# Altium footprint library RFIDComponentLibrary.PcbLib: 21 footprints (part 2 of 2)
Each footprint in its own frame and in the unit in brackets; x right, y up, seen from the top. Pads: shape width x height; smd on the part's side, far side on the other; paste and mask are expansions set on the pad; w line width, h text height; cw(c..) or ccw(c..) is an arc to the next point about the centre after c.
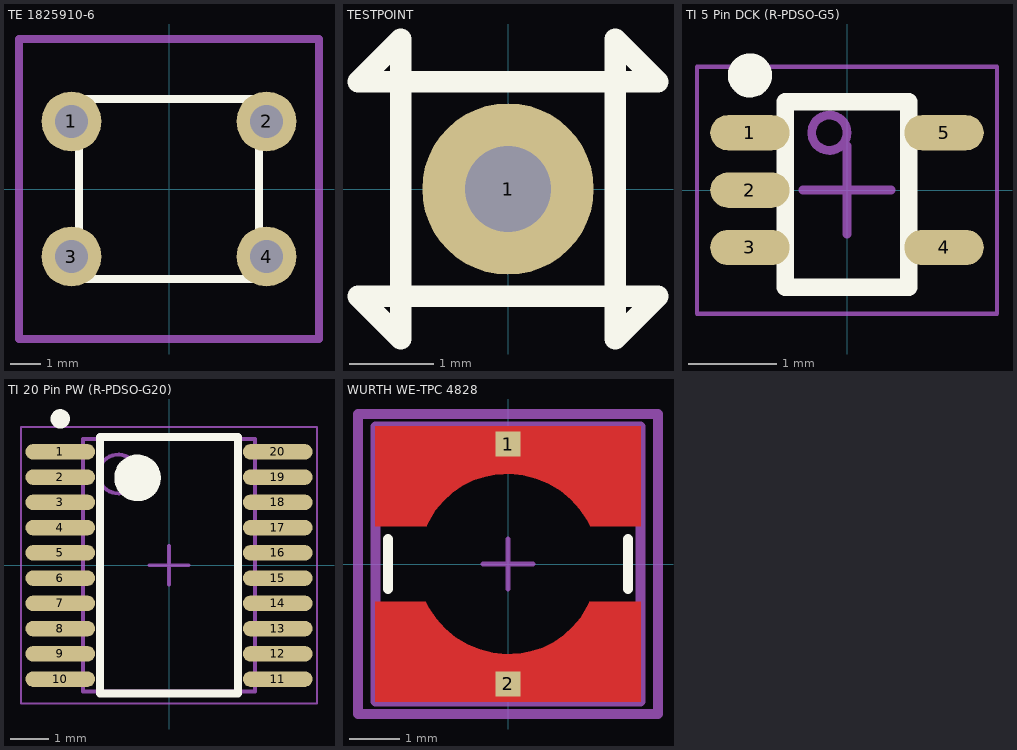
[diagram p1: the footprints below, top view; thin cyan lines are the x and y axes]

## TE 1825910-6 [mm] "SWITCH TACTILE SPST-NO 0.05A 24V"
height 4.978
pads (4):
  round 2 hole 1.1: 1(-3.25,2.25) 2(3.25,2.25) 3(-3.25,-2.25) 4(3.25,-2.25)
Top Overlay:
  lines w0.254: -3,-3 3,-3 3,3 -3,3 -3,-3
Mechanical 2:
  lines w0.254: -5,-5 -5,5 5,5 5,-5 -5,-5
3D body: height 3.61, standoff 0, extent -3.048,-3.048 3.048,3
3D body: height 4.98, standoff 0, extent -1.753,-1.777 1.753,1.729

## TESTPOINT [mil] "Testpoint, Keystone, Multipurpose .063"
pads (1):
  round 80 hole 40: 1(0,0)
Top Overlay:
  lines w10: -70,-50 50,-50 70,-50 50,-70 50,70 70,50 -70,50 -50,70 -50,-70 -70,-50

## TI 5 Pin DCK (R-PDSO-G5) [mm] "Texas Instruments 20 Pin PW Package (0.65mm pitch, 4.4mm width,"
height 1.1
pads (5):
  oval 0.9x0.4 smd: 1(-1.1,0.65) 2(-1.1,0) 3(-1.1,-0.65) 4(1.1,-0.65) 5(1.1,0.65)
Top Overlay:
  circle w0.25: c-1.1,1.3 r0.125
  lines w0.2: -0.7,-1.1 0.7,-1.1 0.7,1 -0.7,1 -0.7,-1.1
Mechanical 13:
  circle w0.1: c-0.2,0.65 r0.2
  lines w0.1: -0.7,-1.1 -0.7,1 0.7,1 0.7,-1.1 -0.7,-1.1
Mechanical 15:
  lines w0.05: -1.7,-1.4 1.7,-1.4 1.7,1.4 -1.7,1.4 -1.7,-1.4
  lines w0.1: -0.5,0 0.5,0 ; 0,-0.5 0,0.5
3D body: height 1.2, standoff 0, extent -0.7,-1.1 0.7,1

## TI 20 Pin PW (R-PDSO-G20) [mm] "Texas Instruments 20 Pin PW Package (0.65mm pitch, 4.4mm width,"
height 1.2
pads (20):
  oval 1.8x0.4 smd: 1(-2.8,2.921) 2(-2.8,2.271) 3(-2.8,1.621) 4(-2.8,0.971) 5(-2.8,0.321) 6(-2.8,-0.329) 7(-2.8,-0.979) 8(-2.8,-1.629) 9(-2.8,-2.279) 10(-2.8,-2.929) 11(2.8,-2.929) 12(2.8,-2.279) 13(2.8,-1.629) 14(2.8,-0.979) 15(2.8,-0.329) 16(2.8,0.321) 17(2.8,0.971) 18(2.8,1.621) 19(2.8,2.271) 20(2.8,2.921)
Top Overlay:
  circle w0.25: c-2.8,3.771 r0.125
  circle w0.6: c-0.81,2.251 r0.3
  lines w0.2: -1.778,-3.302 1.778,-3.302 1.778,3.302 -1.778,3.302 -1.778,-3.302
Mechanical 13:
  circle w0.1: c-1.31,2.351 r0.5
  lines w0.1: -2.21,-3.251 -2.21,3.251 2.21,3.251 2.21,-3.251 -2.21,-3.251
Mechanical 15:
  lines w0.05: -3.81,-3.556 3.81,-3.556 3.81,3.556 -3.81,3.556 -3.81,-3.556
  lines w0.1: -0.5,0 0.5,0 ; 0,-0.5 0,0.5
3D body: height 1.2, standoff 0, extent -2.21,-3.251 2.21,3.251

## WURTH WE-TPC 4828 [mm] "Standard-ish 1919 SMT Package"
height 2.8
pads (2):
  rect 0.5x0.5 smd paste+0 mask+0: 1(0,2.4) 2(0,-2.4)
Top Layer:
  region: 2.65,-0.75 2.65,-2.75 -2.65,-2.75 -2.65,-0.75 -1.649,-0.75 -1.588,-0.87 -1.439,-1.095 -1.258,-1.296 -1.05,-1.468 -0.819,-1.607 -0.57,-1.71 -0.308,-1.775 -0.039,-1.801 0.096,-1.799 0.218,-1.791 0.459,-1.748 0.692,-1.672 0.912,-1.563 1.115,-1.425 1.296,-1.26 1.451,-1.07 1.579,-0.861 1.631,-0.75
  region: -2.65,0.75 -2.65,2.75 2.65,2.75 2.65,0.75 1.649,0.75 1.588,0.87 1.439,1.095 1.258,1.296 1.05,1.468 0.819,1.607 0.57,1.71 0.308,1.775 0.039,1.801 -0.096,1.799 -0.218,1.791 -0.459,1.748 -0.692,1.672 -0.912,1.563 -1.115,1.425 -1.296,1.26 -1.451,1.07 -1.579,0.861 -1.631,0.75
Top Overlay:
  lines w0.2: -2.4,-0.5 -2.4,0.5 ; 2.4,-0.5 2.4,0.5
Mechanical 13:
  lines w0.2: -2.65,-2.75 -2.65,2.75 2.65,2.75 2.65,-2.75 -2.65,-2.75
Mechanical 15:
  lines w0.1: -0.5,0 0.5,0 ; 0,-0.5 0,0.5
  lines w0.2: -3,-3 -2.4,-3 3,-3 3,3 -3,3 -3,-3
3D body: height 2.8, standoff 0, extent -2.4,-2.4 2.4,2.4